# Altium footprint library IFBpcblib.PcbLib: 127 footprints (part 8 of 8)
Each footprint in its own frame and in the unit in brackets; x right, y up, seen from the top. Pads: shape width x height; smd on the part's side, far side on the other; paste and mask are expansions set on the pad; w line width, h text height; cw(c..) or ccw(c..) is an arc to the next point about the centre after c.
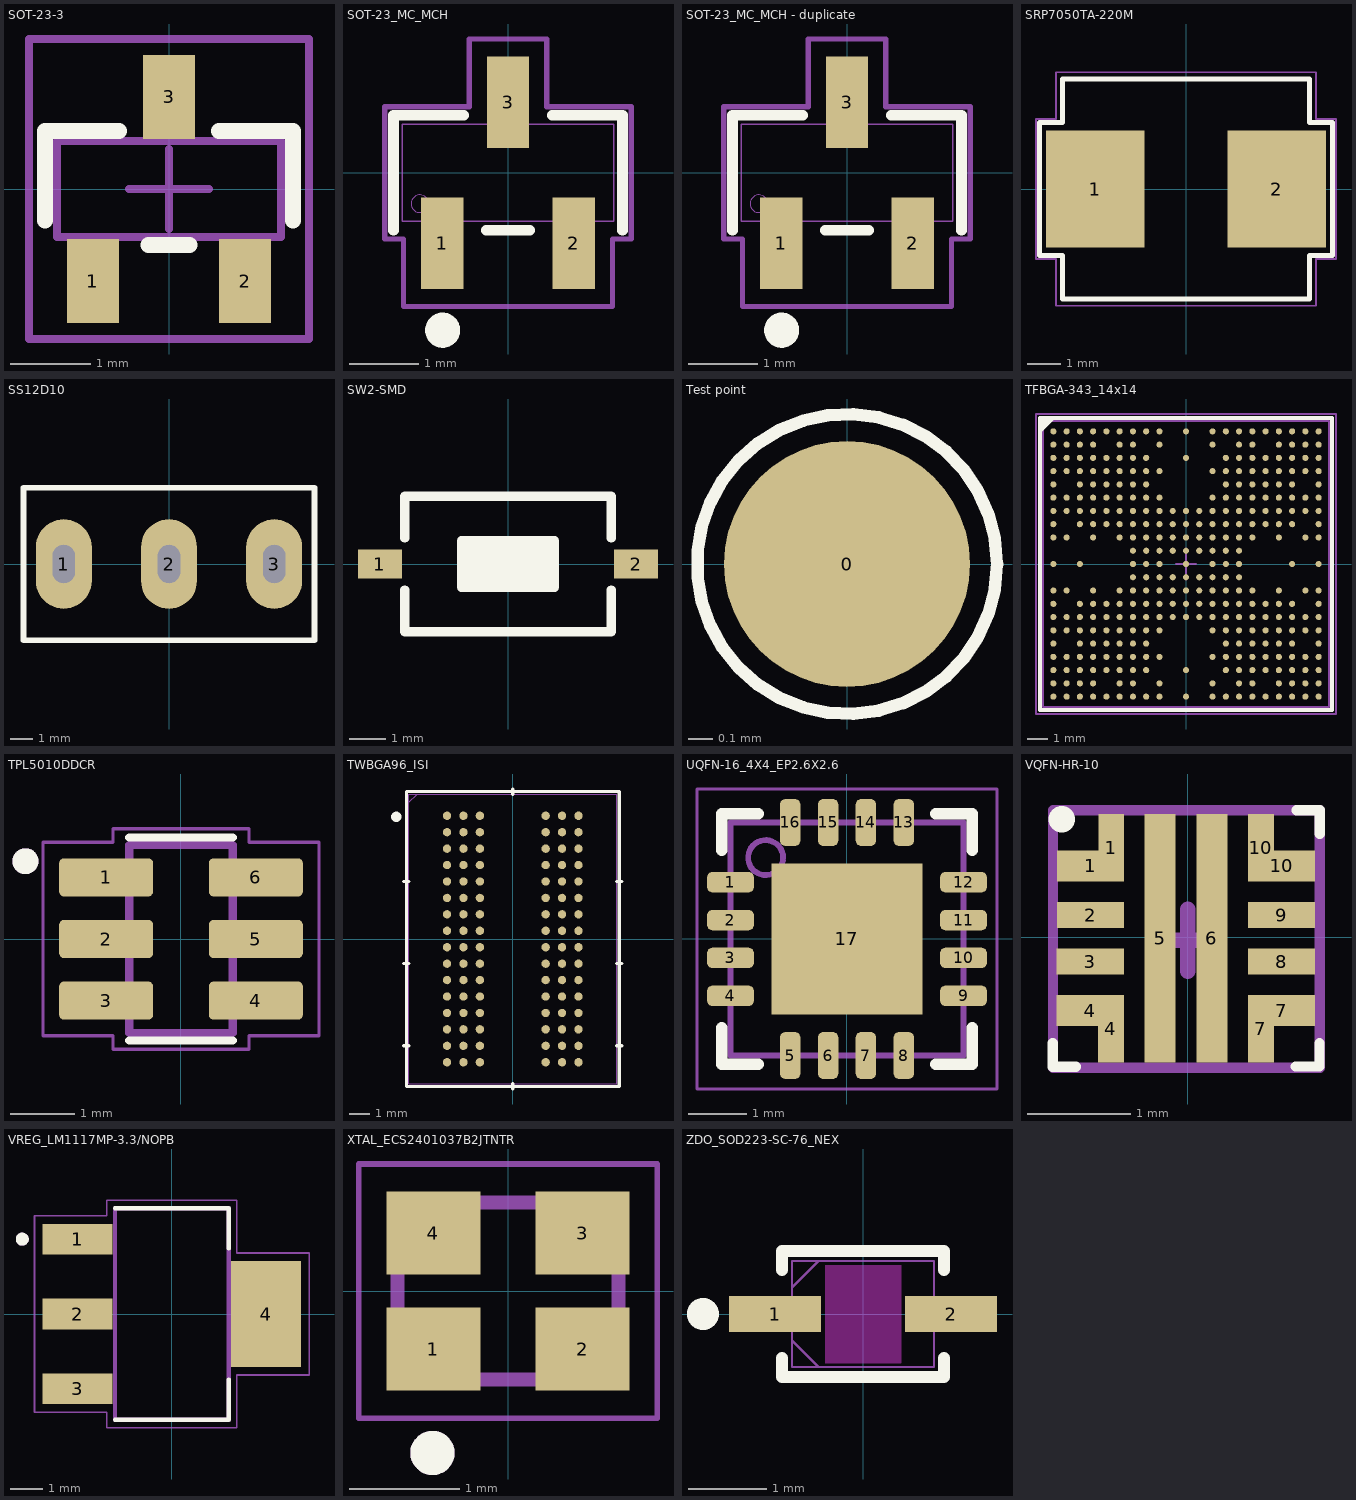
[diagram p7: the footprints below, top view; thin cyan lines are the x and y axes]

## SOT-23-3 [mm]
pads (3):
  rect 0.65x1.05 smd: 1(-0.95,-1.15) 2(0.95,-1.15) 3(0,1.15)
Top Overlay:
  lines w0.2: -1.552,-0.394 -1.552,0.722 -0.625,0.722 ; -0.254,-0.7 0.254,-0.7 ; 0.625,0.722 1.552,0.722 1.552,-0.394
Top Assembly:
  lines w0.1: -1.4,-0.6 -1.4,0.6 1.4,0.6 1.4,-0.6 -1.4,-0.6 ; -1.175,-1.15 -0.725,-1.15 -0.725,-0.6 -1.175,-0.6 -1.175,-1.15 ; -0.225,0.6 -0.225,1.15 0.225,1.15 0.225,0.6 -0.225,0.6 ; 0.725,-1.15 0.725,-0.6 1.175,-0.6 1.175,-1.15 0.725,-1.15
Top Courtyard:
  lines w0.1: -0.5,0 0.5,0 ; 0,-0.5 0,0.5 ; -1.752,-1.875 -1.752,1.875 1.752,1.875 1.752,-1.875 -1.752,-1.875
3D body "SOT-23.step": height 1.09, standoff -0.01, extent -1.5,-1.25 1.5,1.25

## SOT-23_MC_MCH [mil]
pads (3):
  rect 24x52 smd paste+0 mask+0: 1(-37.4,-39.97) 2(37.4,-39.97) 3(0,39.97)
Top Overlay:
  circle w10: c-37.13,-89.41 r5
  lines w6: -65.04,-32.56 -65.04,32.56 -25.1,32.56 ; -12.3,-32.56 12.3,-32.56 ; 25.1,32.56 65.04,32.56 65.04,-32.56
Mechanical 13:
  circle w0: c-50.04,-17.56 r5
  lines w1: -60.04,-27.56 60.04,-27.56 60.04,27.56 -60.04,27.56 -60.04,-27.56 ; -48.4,-51.97 -48.4,-27.56 -26.4,-27.56 -26.4,-51.97 -48.4,-51.97 ; -11,27.56 11,27.56 11,51.97 -11,51.97 -11,27.56 ; 26.4,-51.97 26.4,-27.56 48.4,-27.56 48.4,-51.97 26.4,-51.97
Mechanical 15:
  lines w3: -70.04,-37.56 -70.04,37.56 -22,37.56 -22,75.97 22,75.97 22,37.56 70.04,37.56 70.04,-37.56 59.4,-37.56 59.4,-75.97 -59.4,-75.97 -59.4,-37.56 -70.04,-37.56
3D body "SOT-23_MC_MCH.step": height 44.17, standoff 0, extent -60.04,-51.97 60.04,51.97

## SOT-23_MC_MCH - duplicate [mil]
pads (3):
  rect 24x52 smd paste+0 mask+0: 1(-37.4,-39.97) 2(37.4,-39.97) 3(0,39.97)
Top Overlay:
  circle w10: c-37.13,-89.41 r5
  lines w6: -65.04,-32.56 -65.04,32.56 -25.1,32.56 ; -12.3,-32.56 12.3,-32.56 ; 25.1,32.56 65.04,32.56 65.04,-32.56
Mechanical 13:
  circle w0: c-50.04,-17.56 r5
  lines w1: -60.04,-27.56 -60.04,27.56 60.04,27.56 60.04,-27.56 -60.04,-27.56 ; -48.4,-51.97 -26.4,-51.97 -26.4,-27.56 -48.4,-27.56 -48.4,-51.97 ; -11,27.56 -11,51.97 11,51.97 11,27.56 -11,27.56 ; 26.4,-51.97 48.4,-51.97 48.4,-27.56 26.4,-27.56 26.4,-51.97
Mechanical 15:
  lines w3: -70.04,-37.56 -59.4,-37.56 -59.4,-75.97 59.4,-75.97 59.4,-37.56 70.04,-37.56 70.04,37.56 22,37.56 22,75.97 -22,75.97 -22,37.56 -70.04,37.56 -70.04,-37.56
3D body "SOT-23_MC_MCH.step": height 44.17, standoff 0, extent -60.04,-51.97 60.04,51.97

## SRP7050TA-220M [mm]
pads (2):
  rect 2.95x3.5 smd: 1(-2.725,0) 2(2.725,0)
Top Overlay:
  lines w0.15: -4.4,-2 -3.7,-2 -3.7,-3.3 3.7,-3.3 3.7,-2 4.4,-2 4.4,2 3.7,2 3.7,3.3 -3.7,3.3 -3.7,2 -4.4,2 -4.4,-2
Top Courtyard:
  lines w0.05: -4.5,-2.1 -4.5,1.8 -4.5,2.1 -3.9,2.1 -3.9,3.5 3.9,3.5 3.9,2.1 4.5,2.1 4.5,-2.1 3.9,-2.1 3.9,-3.5 -3.9,-3.5 -3.9,-2.1 -4.5,-2.1
3D body "SRP7050TA.stp": height 4.6, standoff -0.35, extent -3.65,-3.3 3.65,3.3

## SS12D10 [mm]
pads (3):
  oval 2.5x4 hole 1 slot 1.7 at 90 deg: 1(-4.7,0) 2(0,0) 3(4.7,0)
Top Overlay:
  lines w0.254: -6.5,-3.4 6.5,-3.4 6.5,3.4 -6.5,3.4 -6.5,-3.4
3D body "Basprov1.1 v2.step": height 10.76, standoff -6.33, extent -6.5,-3.4 6.5,3.4

## SW2-SMD [mm]
pads (2):
  rect 1.2x0.8 smd: 1(-3.5,0) 2(3.5,0)
Top Overlay:
  rectangle: -1.27,-0.635 1.27,0.635
  lines w0.254: -2.819,-0.711 -2.819,-1.854 2.819,-1.854 2.819,-0.711 ; -2.819,0.711 -2.819,1.854 2.819,1.854 2.819,0.711 ; -1.27,-0.635 -1.27,0.635 1.27,0.635 1.27,-0.635 -1.27,-0.635
3D body "User Library-Button-SMD.step": height 2.5, standoff 0, extent -3.05,-1.85 3.05,1.85

## Test point [mm]
pads (1):
  round 1 smd paste-2539.97 mask+0: 0(0,0)
Top Overlay:
  circle w0.051: c0,0 r0.61

## TFBGA-343_14x14 [mm] "BGA, 343-Leads, Body 14,00mm x14,00mm, Pitch 0,65mm"
height 1.2
pads (343):
  round 0.3 smd mask+0.05: A1(-6.5,6.5) A2(-5.85,6.5) A3(-5.2,6.5) A4(-4.55,6.5) A5(-3.9,6.5) A6(-3.25,6.5) A7(-2.6,6.5) A8(-1.95,6.5) A9(-1.3,6.5) A11(0,6.5) A13(1.3,6.5) A14(1.95,6.5) A15(2.6,6.5) A16(3.25,6.5) A17(3.9,6.5) A18(4.55,6.5) A19(5.2,6.5) A20(5.85,6.5) A21(6.5,6.5) AA1(-6.5,-6.5) AA2(-5.85,-6.5) AA3(-5.2,-6.5) AA4(-4.55,-6.5) AA5(-3.9,-6.5) AA6(-3.25,-6.5) AA7(-2.6,-6.5) AA8(-1.95,-6.5) AA9(-1.3,-6.5) AA11(0,-6.5) AA13(1.3,-6.5) AA14(1.95,-6.5) AA15(2.6,-6.5) AA16(3.25,-6.5) AA17(3.9,-6.5) AA18(4.55,-6.5) AA19(5.2,-6.5) AA20(5.85,-6.5) AA21(6.5,-6.5) B1(-6.5,5.85) B2(-5.85,5.85) B3(-5.2,5.85) B4(-4.55,5.85) B6(-3.25,5.85) B7(-2.6,5.85) B9(-1.3,5.85) B13(1.3,5.85) B15(2.6,5.85) B16(3.25,5.85) B18(4.55,5.85) B19(5.2,5.85) B20(5.85,5.85) B21(6.5,5.85) C1(-6.5,5.2) C2(-5.85,5.2) C3(-5.2,5.2) C4(-4.55,5.2) C5(-3.9,5.2) C6(-3.25,5.2) C7(-2.6,5.2) C8(-1.95,5.2) C11(0,5.2) C14(1.95,5.2) C15(2.6,5.2) C16(3.25,5.2) C17(3.9,5.2) C18(4.55,5.2) C19(5.2,5.2) C20(5.85,5.2) C21(6.5,5.2) D1(-6.5,4.55) D2(-5.85,4.55) D3(-5.2,4.55) D4(-4.55,4.55) D5(-3.9,4.55) D6(-3.25,4.55) D7(-2.6,4.55) D8(-1.95,4.55) D9(-1.3,4.55) D13(1.3,4.55) D14(1.95,4.55) D15(2.6,4.55) D16(3.25,4.55) D17(3.9,4.55) D18(4.55,4.55) D19(5.2,4.55) D20(5.85,4.55) D21(6.5,4.55) E1(-6.5,3.9) E3(-5.2,3.9) E4(-4.55,3.9) E5(-3.9,3.9) E6(-3.25,3.9) E7(-2.6,3.9) E8(-1.95,3.9) E14(1.95,3.9) E15(2.6,3.9) E16(3.25,3.9) E17(3.9,3.9) E18(4.55,3.9) E19(5.2,3.9) E21(6.5,3.9) F1(-6.5,3.25) F2(-5.85,3.25) F3(-5.2,3.25) F4(-4.55,3.25) F5(-3.9,3.25) F6(-3.25,3.25) F7(-2.6,3.25) F8(-1.95,3.25) F9(-1.3,3.25) F13(1.3,3.25) F14(1.95,3.25) F15(2.6,3.25) F16(3.25,3.25) F17(3.9,3.25) F18(4.55,3.25) F19(5.2,3.25) F20(5.85,3.25) F21(6.5,3.25) G1(-6.5,2.6) G2(-5.85,2.6) G3(-5.2,2.6) G4(-4.55,2.6) G5(-3.9,2.6) G6(-3.25,2.6) G7(-2.6,2.6) G8(-1.95,2.6) G9(-1.3,2.6) G10(-0.65,2.6) G11(0,2.6) G12(0.65,2.6) G13(1.3,2.6) G14(1.95,2.6) G15(2.6,2.6) G16(3.25,2.6) G17(3.9,2.6) G18(4.55,2.6) G19(5.2,2.6) G20(5.85,2.6) G21(6.5,2.6) H1(-6.5,1.95) H3(-5.2,1.95) H4(-4.55,1.95) H5(-3.9,1.95) H6(-3.25,1.95) H7(-2.6,1.95) H8(-1.95,1.95) H9(-1.3,1.95) H10(-0.65,1.95) H11(0,1.95) H12(0.65,1.95) H13(1.3,1.95) H14(1.95,1.95) H15(2.6,1.95) H16(3.25,1.95) H17(3.9,1.95) H18(4.55,1.95) H19(5.2,1.95) H21(6.5,1.95) J1(-6.5,1.3) J2(-5.85,1.3) J4(-4.55,1.3) J6(-3.25,1.3) J7(-2.6,1.3) J8(-1.95,1.3) J9(-1.3,1.3) J10(-0.65,1.3) J11(0,1.3) J12(0.65,1.3) J13(1.3,1.3) J14(1.95,1.3) J15(2.6,1.3) J16(3.25,1.3) J18(4.55,1.3) J20(5.85,1.3) J21(6.5,1.3) K7(-2.6,0.65) K8(-1.95,0.65) K9(-1.3,0.65) K10(-0.65,0.65) K11(0,0.65) K12(0.65,0.65) K13(1.3,0.65) K14(1.95,0.65) K15(2.6,0.65) L1(-6.5,0) L3(-5.2,0) L7(-2.6,0) L8(-1.95,0) L9(-1.3,0) L11(0,0) L13(1.3,0) L14(1.95,0) L15(2.6,0) L19(5.2,0) L21(6.5,0) M7(-2.6,-0.65) M8(-1.95,-0.65) M9(-1.3,-0.65) M10(-0.65,-0.65) M11(0,-0.65) M12(0.65,-0.65) M13(1.3,-0.65) M14(1.95,-0.65) M15(2.6,-0.65) N1(-6.5,-1.3) N2(-5.85,-1.3) N4(-4.55,-1.3) N6(-3.25,-1.3) N7(-2.6,-1.3) N8(-1.95,-1.3) N9(-1.3,-1.3) N10(-0.65,-1.3) N11(0,-1.3) N12(0.65,-1.3) N13(1.3,-1.3) N14(1.95,-1.3) N15(2.6,-1.3) N16(3.25,-1.3) N18(4.55,-1.3) N20(5.85,-1.3) N21(6.5,-1.3) P1(-6.5,-1.95) P3(-5.2,-1.95) P4(-4.55,-1.95) P5(-3.9,-1.95) P6(-3.25,-1.95) P7(-2.6,-1.95) P8(-1.95,-1.95) P9(-1.3,-1.95) P10(-0.65,-1.95) P11(0,-1.95) P12(0.65,-1.95) P13(1.3,-1.95) P14(1.95,-1.95) P15(2.6,-1.95) P16(3.25,-1.95) P17(3.9,-1.95) P18(4.55,-1.95) P19(5.2,-1.95) P21(6.5,-1.95) R1(-6.5,-2.6) R2(-5.85,-2.6) R3(-5.2,-2.6) R4(-4.55,-2.6) R5(-3.9,-2.6) R6(-3.25,-2.6) R7(-2.6,-2.6) R8(-1.95,-2.6) R9(-1.3,-2.6) R10(-0.65,-2.6) R11(0,-2.6) R12(0.65,-2.6) R13(1.3,-2.6) R14(1.95,-2.6) R15(2.6,-2.6) R16(3.25,-2.6) R17(3.9,-2.6) R18(4.55,-2.6) R19(5.2,-2.6) R20(5.85,-2.6) R21(6.5,-2.6) T1(-6.5,-3.25) T2(-5.85,-3.25) T3(-5.2,-3.25) T4(-4.55,-3.25) T5(-3.9,-3.25) T6(-3.25,-3.25) T7(-2.6,-3.25) T8(-1.95,-3.25) T9(-1.3,-3.25) T13(1.3,-3.25) T14(1.95,-3.25) T15(2.6,-3.25) T16(3.25,-3.25) T17(3.9,-3.25) T18(4.55,-3.25) T19(5.2,-3.25) T20(5.85,-3.25) T21(6.5,-3.25) U1(-6.5,-3.9) U3(-5.2,-3.9) U4(-4.55,-3.9) U5(-3.9,-3.9) U6(-3.25,-3.9) U7(-2.6,-3.9) U8(-1.95,-3.9) U14(1.95,-3.9) U15(2.6,-3.9) U16(3.25,-3.9) U17(3.9,-3.9) U18(4.55,-3.9) U19(5.2,-3.9) U21(6.5,-3.9) V1(-6.5,-4.55) V2(-5.85,-4.55) V3(-5.2,-4.55) V4(-4.55,-4.55) V5(-3.9,-4.55) V6(-3.25,-4.55) V7(-2.6,-4.55) V8(-1.95,-4.55) V9(-1.3,-4.55) V13(1.3,-4.55) V14(1.95,-4.55) V15(2.6,-4.55) V16(3.25,-4.55) V17(3.9,-4.55) V18(4.55,-4.55) V19(5.2,-4.55) V20(5.85,-4.55) V21(6.5,-4.55) W1(-6.5,-5.2) W2(-5.85,-5.2) W3(-5.2,-5.2) W4(-4.55,-5.2) W5(-3.9,-5.2) W6(-3.25,-5.2) W7(-2.6,-5.2) W8(-1.95,-5.2) W11(0,-5.2) W14(1.95,-5.2) W15(2.6,-5.2) W16(3.25,-5.2) W17(3.9,-5.2) W18(4.55,-5.2) W19(5.2,-5.2) W20(5.85,-5.2) W21(6.5,-5.2) Y1(-6.5,-5.85) Y2(-5.85,-5.85) Y3(-5.2,-5.85) Y4(-4.55,-5.85) Y6(-3.25,-5.85) Y7(-2.6,-5.85) Y9(-1.3,-5.85) Y13(1.3,-5.85) Y15(2.6,-5.85) Y16(3.25,-5.85) Y18(4.55,-5.85) Y19(5.2,-5.85) Y20(5.85,-5.85) Y21(6.5,-5.85)
Top Overlay:
  region: -7.15,7.15 -6.4,7.15 -7.15,6.4
  lines w0.2: -7.15,-7.15 -7.15,7.15 7.15,7.15 7.15,-7.15 -7.15,-7.15
  text "." at -8.15,6.425 h1
Top Assembly:
  lines w0.1: -7,-7 -7,7 7,7 7,-7 -7,-7
  text ".Designator" at -0.975,-0.3 h1
  text "A1" at -6.8,5.825 h1
Top Courtyard:
  lines w0.1: -0.5,0 0.5,0 ; 0,-0.5 0,0.5 ; -7.35,-7.35 7.35,-7.35 7.35,7.35 -7.35,7.35 -7.35,-7.35
3D body: height 1.2, standoff 0.27, extent -7,-7 7,7
3D body: height 0.3, standoff -0.04, extent -6.666,6.338 -6.334,6.662
3D body: height 0.3, standoff -0.04, extent -6.662,5.688 -6.33,6.012
3D body: height 0.3, standoff -0.04, extent -6.012,5.688 -5.68,6.012
3D body: height 0.3, standoff -0.04, extent -5.362,5.688 -5.03,6.012
3D body: height 0.3, standoff -0.04, extent -4.712,5.688 -4.38,6.012
3D body: height 0.3, standoff -0.04, extent -3.412,5.688 -3.08,6.012
3D body: height 0.3, standoff -0.04, extent -2.762,5.688 -2.43,6.012
3D body: height 0.3, standoff -0.04, extent -1.462,5.688 -1.13,6.012
3D body: height 0.3, standoff -0.04, extent 1.138,5.688 1.47,6.012
3D body: height 0.3, standoff -0.04, extent 2.438,5.688 2.77,6.012
3D body: height 0.3, standoff -0.04, extent 3.088,5.688 3.42,6.012
3D body: height 0.3, standoff -0.04, extent 4.388,5.688 4.72,6.012
3D body: height 0.3, standoff -0.04, extent 5.038,5.688 5.37,6.012
3D body: height 0.3, standoff -0.04, extent 5.688,5.688 6.02,6.012
3D body: height 0.3, standoff -0.04, extent 6.338,5.688 6.67,6.012
3D body: height 0.3, standoff -0.04, extent -6.662,5.038 -6.33,5.362
3D body: height 0.3, standoff -0.04, extent -6.012,5.038 -5.68,5.362
3D body: height 0.3, standoff -0.04, extent -5.362,5.038 -5.03,5.362
3D body: height 0.3, standoff -0.04, extent -4.712,5.038 -4.38,5.362
3D body: height 0.3, standoff -0.04, extent -4.062,5.038 -3.73,5.362
3D body: height 0.3, standoff -0.04, extent -3.412,5.038 -3.08,5.362
3D body: height 0.3, standoff -0.04, extent -2.762,5.038 -2.43,5.362
3D body: height 0.3, standoff -0.04, extent -2.112,5.038 -1.78,5.362
3D body: height 0.3, standoff -0.04, extent -0.162,5.038 0.17,5.362
3D body: height 0.3, standoff -0.04, extent 1.788,5.038 2.12,5.362
3D body: height 0.3, standoff -0.04, extent 2.438,5.038 2.77,5.362
3D body: height 0.3, standoff -0.04, extent 3.088,5.038 3.42,5.362
3D body: height 0.3, standoff -0.04, extent 3.738,5.038 4.07,5.362
3D body: height 0.3, standoff -0.04, extent 4.388,5.038 4.72,5.362
3D body: height 0.3, standoff -0.04, extent 5.038,5.038 5.37,5.362
3D body: height 0.3, standoff -0.04, extent 5.688,5.038 6.02,5.362
3D body: height 0.3, standoff -0.04, extent 6.338,5.038 6.67,5.362
3D body: height 0.3, standoff -0.04, extent -6.662,4.388 -6.33,4.712
3D body: height 0.3, standoff -0.04, extent -6.012,4.388 -5.68,4.712
3D body: height 0.3, standoff -0.04, extent -5.362,4.388 -5.03,4.712
3D body: height 0.3, standoff -0.04, extent -4.712,4.388 -4.38,4.712
3D body: height 0.3, standoff -0.04, extent -4.062,4.388 -3.73,4.712
3D body: height 0.3, standoff -0.04, extent -3.412,4.388 -3.08,4.712
3D body: height 0.3, standoff -0.04, extent -2.762,4.388 -2.43,4.712
3D body: height 0.3, standoff -0.04, extent -2.112,4.388 -1.78,4.712
3D body: height 0.3, standoff -0.04, extent -1.462,4.388 -1.13,4.712
3D body: height 0.3, standoff -0.04, extent 1.138,4.388 1.47,4.712
3D body: height 0.3, standoff -0.04, extent 1.788,4.388 2.12,4.712
3D body: height 0.3, standoff -0.04, extent 2.438,4.388 2.77,4.712
3D body: height 0.3, standoff -0.04, extent 3.088,4.388 3.42,4.712
3D body: height 0.3, standoff -0.04, extent 3.738,4.388 4.07,4.712
3D body: height 0.3, standoff -0.04, extent 4.388,4.388 4.72,4.712
3D body: height 0.3, standoff -0.04, extent 5.038,4.388 5.37,4.712
3D body: height 0.3, standoff -0.04, extent 5.688,4.388 6.02,4.712
3D body: height 0.3, standoff -0.04, extent 6.338,4.388 6.67,4.712
3D body: height 0.3, standoff -0.04, extent -6.662,3.738 -6.33,4.062
3D body: height 0.3, standoff -0.04, extent -5.362,3.738 -5.03,4.062
3D body: height 0.3, standoff -0.04, extent -4.712,3.738 -4.38,4.062
3D body: height 0.3, standoff -0.04, extent -4.062,3.738 -3.73,4.062
3D body: height 0.3, standoff -0.04, extent -3.412,3.738 -3.08,4.062
3D body: height 0.3, standoff -0.04, extent -2.762,3.738 -2.43,4.062
3D body: height 0.3, standoff -0.04, extent -2.112,3.738 -1.78,4.062
3D body: height 0.3, standoff -0.04, extent 1.788,3.738 2.12,4.062
3D body: height 0.3, standoff -0.04, extent 2.438,3.738 2.77,4.062
3D body: height 0.3, standoff -0.04, extent 3.088,3.738 3.42,4.062
3D body: height 0.3, standoff -0.04, extent 3.738,3.738 4.07,4.062
3D body: height 0.3, standoff -0.04, extent 4.388,3.738 4.72,4.062
3D body: height 0.3, standoff -0.04, extent 5.038,3.738 5.37,4.062
3D body: height 0.3, standoff -0.04, extent 6.338,3.738 6.67,4.062
3D body: height 0.3, standoff -0.04, extent -6.662,3.088 -6.33,3.412
3D body: height 0.3, standoff -0.04, extent -6.012,3.088 -5.68,3.412
3D body: height 0.3, standoff -0.04, extent -5.362,3.088 -5.03,3.412
3D body: height 0.3, standoff -0.04, extent -4.712,3.088 -4.38,3.412
3D body: height 0.3, standoff -0.04, extent -4.062,3.088 -3.73,3.412
3D body: height 0.3, standoff -0.04, extent -3.412,3.088 -3.08,3.412
3D body: height 0.3, standoff -0.04, extent -2.762,3.088 -2.43,3.412
3D body: height 0.3, standoff -0.04, extent -2.112,3.088 -1.78,3.412
3D body: height 0.3, standoff -0.04, extent -1.462,3.088 -1.13,3.412
3D body: height 0.3, standoff -0.04, extent 1.138,3.088 1.47,3.412
3D body: height 0.3, standoff -0.04, extent 1.788,3.088 2.12,3.412
3D body: height 0.3, standoff -0.04, extent 2.438,3.088 2.77,3.412
3D body: height 0.3, standoff -0.04, extent 3.088,3.088 3.42,3.412
3D body: height 0.3, standoff -0.04, extent 3.738,3.088 4.07,3.412
3D body: height 0.3, standoff -0.04, extent 4.388,3.088 4.72,3.412
3D body: height 0.3, standoff -0.04, extent 5.038,3.088 5.37,3.412
3D body: height 0.3, standoff -0.04, extent 5.688,3.088 6.02,3.412
3D body: height 0.3, standoff -0.04, extent 6.338,3.088 6.67,3.412
3D body: height 0.3, standoff -0.04, extent -6.662,2.438 -6.33,2.762
3D body: height 0.3, standoff -0.04, extent -6.012,2.438 -5.68,2.762
3D body: height 0.3, standoff -0.04, extent -5.362,2.438 -5.03,2.762
3D body: height 0.3, standoff -0.04, extent -4.712,2.438 -4.38,2.762
3D body: height 0.3, standoff -0.04, extent -4.062,2.438 -3.73,2.762
3D body: height 0.3, standoff -0.04, extent -3.412,2.438 -3.08,2.762
3D body: height 0.3, standoff -0.04, extent -2.762,2.438 -2.43,2.762
3D body: height 0.3, standoff -0.04, extent -2.112,2.438 -1.78,2.762
3D body: height 0.3, standoff -0.04, extent -1.462,2.438 -1.13,2.762
3D body: height 0.3, standoff -0.04, extent -0.812,2.438 -0.48,2.762
3D body: height 0.3, standoff -0.04, extent -0.162,2.438 0.17,2.762
3D body: height 0.3, standoff -0.04, extent 0.488,2.438 0.82,2.762
3D body: height 0.3, standoff -0.04, extent 1.138,2.438 1.47,2.762
3D body: height 0.3, standoff -0.04, extent 1.788,2.438 2.12,2.762
3D body: height 0.3, standoff -0.04, extent 2.438,2.438 2.77,2.762
3D body: height 0.3, standoff -0.04, extent 3.088,2.438 3.42,2.762
3D body: height 0.3, standoff -0.04, extent 3.738,2.438 4.07,2.762
3D body: height 0.3, standoff -0.04, extent 4.388,2.438 4.72,2.762
3D body: height 0.3, standoff -0.04, extent 5.038,2.438 5.37,2.762
3D body: height 0.3, standoff -0.04, extent 5.688,2.438 6.02,2.762
3D body: height 0.3, standoff -0.04, extent 6.338,2.438 6.67,2.762
3D body: height 0.3, standoff -0.04, extent -6.012,6.338 -5.68,6.662
3D body: height 0.3, standoff -0.04, extent -5.362,6.338 -5.03,6.662
3D body: height 0.3, standoff -0.04, extent -4.712,6.338 -4.38,6.662
3D body: height 0.3, standoff -0.04, extent -4.062,6.338 -3.73,6.662
3D body: height 0.3, standoff -0.04, extent -3.412,6.338 -3.08,6.662
3D body: height 0.3, standoff -0.04, extent -2.762,6.338 -2.43,6.662
3D body: height 0.3, standoff -0.04, extent -2.112,6.338 -1.78,6.662
3D body: height 0.3, standoff -0.04, extent -1.462,6.338 -1.13,6.662
3D body: height 0.3, standoff -0.04, extent -0.162,6.338 0.17,6.662
3D body: height 0.3, standoff -0.04, extent 1.138,6.338 1.47,6.662
3D body: height 0.3, standoff -0.04, extent 1.788,6.338 2.12,6.662
3D body: height 0.3, standoff -0.04, extent 2.438,6.338 2.77,6.662
3D body: height 0.3, standoff -0.04, extent 3.088,6.338 3.42,6.662
3D body: height 0.3, standoff -0.04, extent 3.738,6.338 4.07,6.662
3D body: height 0.3, standoff -0.04, extent 4.388,6.338 4.72,6.662
3D body: height 0.3, standoff -0.04, extent 5.038,6.338 5.37,6.662
3D body: height 0.3, standoff -0.04, extent 5.688,6.338 6.02,6.662
3D body: height 0.3, standoff -0.04, extent 6.338,6.338 6.67,6.662
3D body: height 0.3, standoff -0.04, extent -6.662,1.788 -6.33,2.112
3D body: height 0.3, standoff -0.04, extent -5.362,1.788 -5.03,2.112
3D body: height 0.3, standoff -0.04, extent -4.712,1.788 -4.38,2.112
3D body: height 0.3, standoff -0.04, extent -4.062,1.788 -3.73,2.112
3D body: height 0.3, standoff -0.04, extent -3.412,1.788 -3.08,2.112
3D body: height 0.3, standoff -0.04, extent -2.762,1.788 -2.43,2.112
3D body: height 0.3, standoff -0.04, extent -2.112,1.788 -1.78,2.112
3D body: height 0.3, standoff -0.04, extent -1.462,1.788 -1.13,2.112
3D body: height 0.3, standoff -0.04, extent -0.812,1.788 -0.48,2.112
3D body: height 0.3, standoff -0.04, extent -0.162,1.788 0.17,2.112
3D body: height 0.3, standoff -0.04, extent 0.488,1.788 0.82,2.112
3D body: height 0.3, standoff -0.04, extent 1.138,1.788 1.47,2.112
3D body: height 0.3, standoff -0.04, extent 1.788,1.788 2.12,2.112
3D body: height 0.3, standoff -0.04, extent 2.438,1.788 2.77,2.112
3D body: height 0.3, standoff -0.04, extent 3.088,1.788 3.42,2.112
3D body: height 0.3, standoff -0.04, extent 3.738,1.788 4.07,2.112
3D body: height 0.3, standoff -0.04, extent 4.388,1.788 4.72,2.112
3D body: height 0.3, standoff -0.04, extent 5.038,1.788 5.37,2.112
3D body: height 0.3, standoff -0.04, extent 6.338,1.788 6.67,2.112
3D body: height 0.3, standoff -0.04, extent -6.662,1.138 -6.33,1.462
3D body: height 0.3, standoff -0.04, extent -6.012,1.138 -5.68,1.462
3D body: height 0.3, standoff -0.04, extent -4.712,1.138 -4.38,1.462
3D body: height 0.3, standoff -0.04, extent -3.412,1.138 -3.08,1.462
3D body: height 0.3, standoff -0.04, extent -2.762,1.138 -2.43,1.462
3D body: height 0.3, standoff -0.04, extent -2.112,1.138 -1.78,1.462
3D body: height 0.3, standoff -0.04, extent -1.462,1.138 -1.13,1.462
3D body: height 0.3, standoff -0.04, extent -0.812,1.138 -0.48,1.462
3D body: height 0.3, standoff -0.04, extent -0.162,1.138 0.17,1.462
3D body: height 0.3, standoff -0.04, extent 0.488,1.138 0.82,1.462
3D body: height 0.3, standoff -0.04, extent 1.138,1.138 1.47,1.462
3D body: height 0.3, standoff -0.04, extent 1.788,1.138 2.12,1.462
3D body: height 0.3, standoff -0.04, extent 2.438,1.138 2.77,1.462
3D body: height 0.3, standoff -0.04, extent 3.088,1.138 3.42,1.462
3D body: height 0.3, standoff -0.04, extent 4.388,1.138 4.72,1.462
3D body: height 0.3, standoff -0.04, extent 5.688,1.138 6.02,1.462
3D body: height 0.3, standoff -0.04, extent 6.338,1.138 6.67,1.462
3D body: height 0.3, standoff -0.04, extent -2.762,0.488 -2.43,0.812
3D body: height 0.3, standoff -0.04, extent -2.112,0.488 -1.78,0.812
3D body: height 0.3, standoff -0.04, extent -1.462,0.488 -1.13,0.812
3D body: height 0.3, standoff -0.04, extent -0.812,0.488 -0.48,0.812
3D body: height 0.3, standoff -0.04, extent -0.162,0.488 0.17,0.812
3D body: height 0.3, standoff -0.04, extent 0.488,0.488 0.82,0.812
3D body: height 0.3, standoff -0.04, extent 1.138,0.488 1.47,0.812
3D body: height 0.3, standoff -0.04, extent 1.788,0.488 2.12,0.812
3D body: height 0.3, standoff -0.04, extent 2.438,0.488 2.77,0.812
3D body: height 0.3, standoff -0.04, extent -6.662,-0.162 -6.33,0.162
3D body: height 0.3, standoff -0.04, extent -5.362,-0.162 -5.03,0.162
3D body: height 0.3, standoff -0.04, extent -2.762,-0.162 -2.43,0.162
3D body: height 0.3, standoff -0.04, extent -2.112,-0.162 -1.78,0.162
3D body: height 0.3, standoff -0.04, extent -1.462,-0.162 -1.13,0.162
3D body: height 0.3, standoff -0.04, extent -0.162,-0.162 0.17,0.162
3D body: height 0.3, standoff -0.04, extent 1.138,-0.162 1.47,0.162
3D body: height 0.3, standoff -0.04, extent 1.788,-0.162 2.12,0.162
3D body: height 0.3, standoff -0.04, extent 2.438,-0.162 2.77,0.162
3D body: height 0.3, standoff -0.04, extent 5.038,-0.162 5.37,0.162
3D body: height 0.3, standoff -0.04, extent 6.338,-0.162 6.67,0.162
3D body: height 0.3, standoff -0.04, extent 6.334,-6.662 6.666,-6.338
3D body: height 0.3, standoff -0.04, extent 6.33,-6.012 6.662,-5.688
3D body: height 0.3, standoff -0.04, extent 5.68,-6.012 6.012,-5.688
3D body: height 0.3, standoff -0.04, extent 5.03,-6.012 5.362,-5.688
3D body: height 0.3, standoff -0.04, extent 4.38,-6.012 4.712,-5.688
3D body: height 0.3, standoff -0.04, extent 3.08,-6.012 3.412,-5.688
3D body: height 0.3, standoff -0.04, extent 2.43,-6.012 2.762,-5.688
3D body: height 0.3, standoff -0.04, extent 1.13,-6.012 1.462,-5.688
3D body: height 0.3, standoff -0.04, extent -1.47,-6.012 -1.138,-5.688
3D body: height 0.3, standoff -0.04, extent -2.77,-6.012 -2.438,-5.688
3D body: height 0.3, standoff -0.04, extent -3.42,-6.012 -3.088,-5.688
3D body: height 0.3, standoff -0.04, extent -4.72,-6.012 -4.388,-5.688
3D body: height 0.3, standoff -0.04, extent -5.37,-6.012 -5.038,-5.688
3D body: height 0.3, standoff -0.04, extent -6.02,-6.012 -5.688,-5.688
3D body: height 0.3, standoff -0.04, extent -6.67,-6.012 -6.338,-5.688
3D body: height 0.3, standoff -0.04, extent 6.33,-5.362 6.662,-5.038
3D body: height 0.3, standoff -0.04, extent 5.68,-5.362 6.012,-5.038
3D body: height 0.3, standoff -0.04, extent 5.03,-5.362 5.362,-5.038
3D body: height 0.3, standoff -0.04, extent 4.38,-5.362 4.712,-5.038
3D body: height 0.3, standoff -0.04, extent 3.73,-5.362 4.062,-5.038
3D body: height 0.3, standoff -0.04, extent 3.08,-5.362 3.412,-5.038
3D body: height 0.3, standoff -0.04, extent 2.43,-5.362 2.762,-5.038
3D body: height 0.3, standoff -0.04, extent 1.78,-5.362 2.112,-5.038
3D body: height 0.3, standoff -0.04, extent -0.17,-5.362 0.162,-5.038
3D body: height 0.3, standoff -0.04, extent -2.12,-5.362 -1.788,-5.038
3D body: height 0.3, standoff -0.04, extent -2.77,-5.362 -2.438,-5.038
3D body: height 0.3, standoff -0.04, extent -3.42,-5.362 -3.088,-5.038
3D body: height 0.3, standoff -0.04, extent -4.07,-5.362 -3.738,-5.038
3D body: height 0.3, standoff -0.04, extent -4.72,-5.362 -4.388,-5.038
3D body: height 0.3, standoff -0.04, extent -5.37,-5.362 -5.038,-5.038
3D body: height 0.3, standoff -0.04, extent -6.02,-5.362 -5.688,-5.038
3D body: height 0.3, standoff -0.04, extent -6.67,-5.362 -6.338,-5.038
3D body: height 0.3, standoff -0.04, extent 6.33,-4.712 6.662,-4.388
3D body: height 0.3, standoff -0.04, extent 5.68,-4.712 6.012,-4.388
3D body: height 0.3, standoff -0.04, extent 5.03,-4.712 5.362,-4.388
3D body: height 0.3, standoff -0.04, extent 4.38,-4.712 4.712,-4.388
3D body: height 0.3, standoff -0.04, extent 3.73,-4.712 4.062,-4.388
3D body: height 0.3, standoff -0.04, extent 3.08,-4.712 3.412,-4.388
3D body: height 0.3, standoff -0.04, extent 2.43,-4.712 2.762,-4.388
3D body: height 0.3, standoff -0.04, extent 1.78,-4.712 2.112,-4.388
3D body: height 0.3, standoff -0.04, extent 1.13,-4.712 1.462,-4.388
3D body: height 0.3, standoff -0.04, extent -1.47,-4.712 -1.138,-4.388
3D body: height 0.3, standoff -0.04, extent -2.12,-4.712 -1.788,-4.388
3D body: height 0.3, standoff -0.04, extent -2.77,-4.712 -2.438,-4.388
3D body: height 0.3, standoff -0.04, extent -3.42,-4.712 -3.088,-4.388
3D body: height 0.3, standoff -0.04, extent -4.07,-4.712 -3.738,-4.388
3D body: height 0.3, standoff -0.04, extent -4.72,-4.712 -4.388,-4.388
3D body: height 0.3, standoff -0.04, extent -5.37,-4.712 -5.038,-4.388
3D body: height 0.3, standoff -0.04, extent -6.02,-4.712 -5.688,-4.388
3D body: height 0.3, standoff -0.04, extent -6.67,-4.712 -6.338,-4.388
3D body: height 0.3, standoff -0.04, extent 6.33,-4.062 6.662,-3.738
3D body: height 0.3, standoff -0.04, extent 5.03,-4.062 5.362,-3.738
3D body: height 0.3, standoff -0.04, extent 4.38,-4.062 4.712,-3.738
3D body: height 0.3, standoff -0.04, extent 3.73,-4.062 4.062,-3.738
3D body: height 0.3, standoff -0.04, extent 3.08,-4.062 3.412,-3.738
3D body: height 0.3, standoff -0.04, extent 2.43,-4.062 2.762,-3.738
3D body: height 0.3, standoff -0.04, extent 1.78,-4.062 2.112,-3.738
3D body: height 0.3, standoff -0.04, extent -2.12,-4.062 -1.788,-3.738
3D body: height 0.3, standoff -0.04, extent -2.77,-4.062 -2.438,-3.738
3D body: height 0.3, standoff -0.04, extent -3.42,-4.062 -3.088,-3.738
3D body: height 0.3, standoff -0.04, extent -4.07,-4.062 -3.738,-3.738
3D body: height 0.3, standoff -0.04, extent -4.72,-4.062 -4.388,-3.738
3D body: height 0.3, standoff -0.04, extent -5.37,-4.062 -5.038,-3.738
3D body: height 0.3, standoff -0.04, extent -6.67,-4.062 -6.338,-3.738
3D body: height 0.3, standoff -0.04, extent 6.33,-3.412 6.662,-3.088
3D body: height 0.3, standoff -0.04, extent 5.68,-3.412 6.012,-3.088
3D body: height 0.3, standoff -0.04, extent 5.03,-3.412 5.362,-3.088
3D body: height 0.3, standoff -0.04, extent 4.38,-3.412 4.712,-3.088
3D body: height 0.3, standoff -0.04, extent 3.73,-3.412 4.062,-3.088
3D body: height 0.3, standoff -0.04, extent 3.08,-3.412 3.412,-3.088
3D body: height 0.3, standoff -0.04, extent 2.43,-3.412 2.762,-3.088
3D body: height 0.3, standoff -0.04, extent 1.78,-3.412 2.112,-3.088
3D body: height 0.3, standoff -0.04, extent 1.13,-3.412 1.462,-3.088
3D body: height 0.3, standoff -0.04, extent -1.47,-3.412 -1.138,-3.088
3D body: height 0.3, standoff -0.04, extent -2.12,-3.412 -1.788,-3.088
3D body: height 0.3, standoff -0.04, extent -2.77,-3.412 -2.438,-3.088
3D body: height 0.3, standoff -0.04, extent -3.42,-3.412 -3.088,-3.088
3D body: height 0.3, standoff -0.04, extent -4.07,-3.412 -3.738,-3.088
3D body: height 0.3, standoff -0.04, extent -4.72,-3.412 -4.388,-3.088
3D body: height 0.3, standoff -0.04, extent -5.37,-3.412 -5.038,-3.088
3D body: height 0.3, standoff -0.04, extent -6.02,-3.412 -5.688,-3.088
3D body: height 0.3, standoff -0.04, extent -6.67,-3.412 -6.338,-3.088
3D body: height 0.3, standoff -0.04, extent 6.33,-2.762 6.662,-2.438
3D body: height 0.3, standoff -0.04, extent 5.68,-2.762 6.012,-2.438
3D body: height 0.3, standoff -0.04, extent 5.03,-2.762 5.362,-2.438
3D body: height 0.3, standoff -0.04, extent 4.38,-2.762 4.712,-2.438
3D body: height 0.3, standoff -0.04, extent 3.73,-2.762 4.062,-2.438
3D body: height 0.3, standoff -0.04, extent 3.08,-2.762 3.412,-2.438
3D body: height 0.3, standoff -0.04, extent 2.43,-2.762 2.762,-2.438
3D body: height 0.3, standoff -0.04, extent 1.78,-2.762 2.112,-2.438
3D body: height 0.3, standoff -0.04, extent 1.13,-2.762 1.462,-2.438
3D body: height 0.3, standoff -0.04, extent 0.48,-2.762 0.812,-2.438
3D body: height 0.3, standoff -0.04, extent -0.17,-2.762 0.162,-2.438
3D body: height 0.3, standoff -0.04, extent -0.82,-2.762 -0.488,-2.438
3D body: height 0.3, standoff -0.04, extent -1.47,-2.762 -1.138,-2.438
3D body: height 0.3, standoff -0.04, extent -2.12,-2.762 -1.788,-2.438
3D body: height 0.3, standoff -0.04, extent -2.77,-2.762 -2.438,-2.438
3D body: height 0.3, standoff -0.04, extent -3.42,-2.762 -3.088,-2.438
3D body: height 0.3, standoff -0.04, extent -4.07,-2.762 -3.738,-2.438
3D body: height 0.3, standoff -0.04, extent -4.72,-2.762 -4.388,-2.438
3D body: height 0.3, standoff -0.04, extent -5.37,-2.762 -5.038,-2.438
3D body: height 0.3, standoff -0.04, extent -6.02,-2.762 -5.688,-2.438
3D body: height 0.3, standoff -0.04, extent -6.67,-2.762 -6.338,-2.438
3D body: height 0.3, standoff -0.04, extent 5.68,-6.662 6.012,-6.338
3D body: height 0.3, standoff -0.04, extent 5.03,-6.662 5.362,-6.338
3D body: height 0.3, standoff -0.04, extent 4.38,-6.662 4.712,-6.338
3D body: height 0.3, standoff -0.04, extent 3.73,-6.662 4.062,-6.338
3D body: height 0.3, standoff -0.04, extent 3.08,-6.662 3.412,-6.338
3D body: height 0.3, standoff -0.04, extent 2.43,-6.662 2.762,-6.338
3D body: height 0.3, standoff -0.04, extent 1.78,-6.662 2.112,-6.338
3D body: height 0.3, standoff -0.04, extent 1.13,-6.662 1.462,-6.338
3D body: height 0.3, standoff -0.04, extent -0.17,-6.662 0.162,-6.338
3D body: height 0.3, standoff -0.04, extent -1.47,-6.662 -1.138,-6.338
3D body: height 0.3, standoff -0.04, extent -2.12,-6.662 -1.788,-6.338
3D body: height 0.3, standoff -0.04, extent -2.77,-6.662 -2.438,-6.338
3D body: height 0.3, standoff -0.04, extent -3.42,-6.662 -3.088,-6.338
3D body: height 0.3, standoff -0.04, extent -4.07,-6.662 -3.738,-6.338
3D body: height 0.3, standoff -0.04, extent -4.72,-6.662 -4.388,-6.338
3D body: height 0.3, standoff -0.04, extent -5.37,-6.662 -5.038,-6.338
3D body: height 0.3, standoff -0.04, extent -6.02,-6.662 -5.688,-6.338
3D body: height 0.3, standoff -0.04, extent -6.67,-6.662 -6.338,-6.338
3D body: height 0.3, standoff -0.04, extent 6.33,-2.112 6.662,-1.788
3D body: height 0.3, standoff -0.04, extent 5.03,-2.112 5.362,-1.788
3D body: height 0.3, standoff -0.04, extent 4.38,-2.112 4.712,-1.788
3D body: height 0.3, standoff -0.04, extent 3.73,-2.112 4.062,-1.788
3D body: height 0.3, standoff -0.04, extent 3.08,-2.112 3.412,-1.788
3D body: height 0.3, standoff -0.04, extent 2.43,-2.112 2.762,-1.788
3D body: height 0.3, standoff -0.04, extent 1.78,-2.112 2.112,-1.788
3D body: height 0.3, standoff -0.04, extent 1.13,-2.112 1.462,-1.788
3D body: height 0.3, standoff -0.04, extent 0.48,-2.112 0.812,-1.788
3D body: height 0.3, standoff -0.04, extent -0.17,-2.112 0.162,-1.788
3D body: height 0.3, standoff -0.04, extent -0.82,-2.112 -0.488,-1.788
3D body: height 0.3, standoff -0.04, extent -1.47,-2.112 -1.138,-1.788
3D body: height 0.3, standoff -0.04, extent -2.12,-2.112 -1.788,-1.788
3D body: height 0.3, standoff -0.04, extent -2.77,-2.112 -2.438,-1.788
3D body: height 0.3, standoff -0.04, extent -3.42,-2.112 -3.088,-1.788
3D body: height 0.3, standoff -0.04, extent -4.07,-2.112 -3.738,-1.788
3D body: height 0.3, standoff -0.04, extent -4.72,-2.112 -4.388,-1.788
3D body: height 0.3, standoff -0.04, extent -5.37,-2.112 -5.038,-1.788
3D body: height 0.3, standoff -0.04, extent -6.67,-2.112 -6.338,-1.788
3D body: height 0.3, standoff -0.04, extent 6.33,-1.462 6.662,-1.138
3D body: height 0.3, standoff -0.04, extent 5.68,-1.462 6.012,-1.138
3D body: height 0.3, standoff -0.04, extent 4.38,-1.462 4.712,-1.138
3D body: height 0.3, standoff -0.04, extent 3.08,-1.462 3.412,-1.138
3D body: height 0.3, standoff -0.04, extent 2.43,-1.462 2.762,-1.138
3D body: height 0.3, standoff -0.04, extent 1.78,-1.462 2.112,-1.138
3D body: height 0.3, standoff -0.04, extent 1.13,-1.462 1.462,-1.138
3D body: height 0.3, standoff -0.04, extent 0.48,-1.462 0.812,-1.138
3D body: height 0.3, standoff -0.04, extent -0.17,-1.462 0.162,-1.138
3D body: height 0.3, standoff -0.04, extent -0.82,-1.462 -0.488,-1.138
3D body: height 0.3, standoff -0.04, extent -1.47,-1.462 -1.138,-1.138
3D body: height 0.3, standoff -0.04, extent -2.12,-1.462 -1.788,-1.138
3D body: height 0.3, standoff -0.04, extent -2.77,-1.462 -2.438,-1.138
3D body: height 0.3, standoff -0.04, extent -3.42,-1.462 -3.088,-1.138
3D body: height 0.3, standoff -0.04, extent -4.72,-1.462 -4.388,-1.138
3D body: height 0.3, standoff -0.04, extent -6.02,-1.462 -5.688,-1.138
3D body: height 0.3, standoff -0.04, extent -6.67,-1.462 -6.338,-1.138
3D body: height 0.3, standoff -0.04, extent 2.43,-0.812 2.762,-0.488
3D body: height 0.3, standoff -0.04, extent 1.78,-0.812 2.112,-0.488
3D body: height 0.3, standoff -0.04, extent 1.13,-0.812 1.462,-0.488
3D body: height 0.3, standoff -0.04, extent 0.48,-0.812 0.812,-0.488
3D body: height 0.3, standoff -0.04, extent -0.17,-0.812 0.162,-0.488
3D body: height 0.3, standoff -0.04, extent -0.82,-0.812 -0.488,-0.488
3D body: height 0.3, standoff -0.04, extent -1.47,-0.812 -1.138,-0.488
3D body: height 0.3, standoff -0.04, extent -2.12,-0.812 -1.788,-0.488
3D body: height 0.3, standoff -0.04, extent -2.77,-0.812 -2.438,-0.488
3D body: height 1.22, standoff 0.72, extent -6.475,5.876 -5.877,6.474

## TPL5010DDCR [mm]
pads (6):
  rrect25% 1.45x0.59 smd: 1(-1.155,0.95) 2(-1.155,0) 3(-1.155,-0.95) 4(1.155,-0.95) 5(1.155,0) 6(1.155,0.95)
Top Overlay:
  circle w0.2: c-2.4,1.2 r0.1
  lines w0.127: -0.8,-1.565 0.8,-1.565 ; -0.8,1.565 0.8,1.565
Mechanical 13:
  circle w0.2: c-2.4,1.2 r0.1
  lines w0.127: -0.8,-1.45 0.8,-1.45 0.8,1.45 -0.8,1.45 -0.8,-1.45
Mechanical 15:
  lines w0.05: -2.13,-1.495 -1.05,-1.495 -1.05,-1.7 1.05,-1.7 1.05,-1.495 2.13,-1.495 2.13,1.495 1.05,1.495 1.05,1.7 -1.05,1.7 -1.05,1.495 -2.13,1.495 -2.13,-1.495
3D body "step_temp.STEP": height 1.1, standoff 0, extent -1.4,-1.45 1.4,1.45

## TWBGA96_ISI [mm]
pads (96):
  round 0.406 smd paste+0 mask+0: A1(-3.2,6) A2(-2.4,6) A3(-1.6,6) A7(1.6,6) A8(2.4,6) A9(3.2,6) B1(-3.2,5.2) B2(-2.4,5.2) B3(-1.6,5.2) B7(1.6,5.2) B8(2.4,5.2) B9(3.2,5.2) C1(-3.2,4.4) C2(-2.4,4.4) C3(-1.6,4.4) C7(1.6,4.4) C8(2.4,4.4) C9(3.2,4.4) D1(-3.2,3.6) D2(-2.4,3.6) D3(-1.6,3.6) D7(1.6,3.6) D8(2.4,3.6) D9(3.2,3.6) E1(-3.2,2.8) E2(-2.4,2.8) E3(-1.6,2.8) E7(1.6,2.8) E8(2.4,2.8) E9(3.2,2.8) F1(-3.2,2) F2(-2.4,2) F3(-1.6,2) F7(1.6,2) F8(2.4,2) F9(3.2,2) G1(-3.2,1.2) G2(-2.4,1.2) G3(-1.6,1.2) G7(1.6,1.2) G8(2.4,1.2) G9(3.2,1.2) H1(-3.2,0.4) H2(-2.4,0.4) H3(-1.6,0.4) H7(1.6,0.4) H8(2.4,0.4) H9(3.2,0.4) J1(-3.2,-0.4) J2(-2.4,-0.4) J3(-1.6,-0.4) J7(1.6,-0.4) J8(2.4,-0.4) J9(3.2,-0.4) K1(-3.2,-1.2) K2(-2.4,-1.2) K3(-1.6,-1.2) K7(1.6,-1.2) K8(2.4,-1.2) K9(3.2,-1.2) L1(-3.2,-2) L2(-2.4,-2) L3(-1.6,-2) L7(1.6,-2) L8(2.4,-2) L9(3.2,-2) M1(-3.2,-2.8) M2(-2.4,-2.8) M3(-1.6,-2.8) M7(1.6,-2.8) M8(2.4,-2.8) M9(3.2,-2.8) N1(-3.2,-3.6) N2(-2.4,-3.6) N3(-1.6,-3.6) N7(1.6,-3.6) N8(2.4,-3.6) N9(3.2,-3.6) P1(-3.2,-4.4) P2(-2.4,-4.4) P3(-1.6,-4.4) P7(1.6,-4.4) P8(2.4,-4.4) P9(3.2,-4.4) R1(-3.2,-5.2) R2(-2.4,-5.2) R3(-1.6,-5.2) R7(1.6,-5.2) R8(2.4,-5.2) R9(3.2,-5.2) T1(-3.2,-6) T2(-2.4,-6) T3(-1.6,-6) T7(1.6,-6) T8(2.4,-6) T9(3.2,-6)
Top Overlay:
  circle w0.3: c-5.672,5.949 r0.1
  lines w0.152: -5.309,-5.2 -5.055,-5.2 ; -5.309,-1.2 -5.055,-1.2 ; -5.309,2.8 -5.055,2.8 ; 0,-7.302 0,-7.048 ; 0,7.048 0,7.302 ; 5.055,-5.2 5.309,-5.2 ; 5.055,-1.2 5.309,-1.2 ; 5.055,2.8 5.309,2.8 ; -5.182,-7.175 -5.182,7.175 5.182,7.175 5.182,-7.175 -5.182,-7.175
Mechanical 13:
  lines w0.025: -5.055,6.649 -4.655,7.048 ; -5.055,-7.048 -5.055,7.048 5.055,7.048 5.055,-7.048 -5.055,-7.048
3D body "TWBGA96_ISI.step": height 1.2, standoff 0, extent -5.055,-7.048 5.055,7.048

## UQFN-16_4X4_EP2.6X2.6 [mm]
height 0.5
pads (17):
  rrect50% 0.8x0.35 smd paste+0 mask+0.075: 1(-2,0.975) 2(-2,0.325) 3(-2,-0.325) 4(-2,-0.975) 9(2,-0.975) 10(2,-0.325) 11(2,0.325) 12(2,0.975)
  rrect50% 0.35x0.8 smd paste+0 mask+0.057: 5(-0.975,-2) 6(-0.325,-2) 7(0.325,-2) 8(0.975,-2) 13(0.975,2) 14(0.325,2) 15(-0.325,2) 16(-0.975,2)
  rect 2.6x2.6 smd paste-0.25 mask+0.075: 17(0,0)
Top Overlay:
  lines w0.2: -2.15,-1.525 -2.15,-2.15 -1.525,-2.15 ; -2.15,1.525 -2.15,2.15 -1.525,2.15 ; 1.525,-2.15 2.15,-2.15 2.15,-1.525 ; 1.525,2.15 2.15,2.15 2.15,1.525
  text "." at -3,1.75 h1
Top Assembly:
  circle w0.1: c-1.397,1.397 r0.3
  lines w0.1: -2,-2 2,-2 2,2 -2,2 -2,-2
Top Courtyard:
  lines w0.05: -2.575,-2.575 2.575,-2.575 2.575,2.575 -2.575,2.575 -2.575,-2.575
  lines w0.1: -0.5,0 0.5,0 ; 0,-0.5 0,0.5
3D body "QFN127P600-8N.step": height 0.5, standoff 0, extent -2.001,-2.001 2.001,2.001

## VQFN-HR-10 [mm]
pads (14):
  rect 0.65x0.3 smd: 1(-0.938,0.692) 4(-0.941,-0.708) 7(0.909,-0.708) 10(0.909,0.692)
  rect 0.25x0.65 smd: 1(-0.738,0.867) 4(-0.741,-0.883) 7(0.709,-0.883) 10(0.709,0.867)
  rect 0.65x0.25 smd: 2(-0.938,0.216) 3(-0.941,-0.233) 8(0.909,-0.233) 9(0.909,0.216)
  rect 0.3x2.4 smd: 5(-0.265,-0.008) 6(0.235,-0.007)
Top Overlay:
  lines w0.1: -1.304,-1.022 -1.304,-1.25 -1.078,-1.25 ; 1.047,-1.247 1.275,-1.247 1.275,-1.021 ; 1.053,1.228 1.279,1.228 1.279,1
  lines w0.254: -1.216,1.143 -1.213,1.143
Top 3D Body:
  lines w0.1: -1.301,-1.261 1.278,-1.261 1.278,1.231 -1.301,1.231 -1.301,-1.261
  lines w0.15: -0.298,-0.027 0.302,-0.027 ; 0.002,-0.327 0.002,0.273
3D body "TPS259470ARPWR.step": height 1, standoff 0, extent -1.028,-1.005 0.972,0.995

## VREG_LM1117MP-3.3/NOPB [mm]
height 1.8
pads (4):
  rect 2.15x0.95 smd: 1(-2.9,2.3) 2(-2.9,0) 3(-2.9,-2.3)
  rect 2.15x3.25 smd: 4(2.9,0)
Top Overlay:
  circle w0.2: c-4.6,2.3 r0.1
  lines w0.127: -1.75,-3.25 1.75,-3.25 1.75,-2.01 ; -1.75,3.25 1.75,3.25 1.75,2.01
Mechanical 13:
  circle w0.2: c-4.6,2.3 r0.1
  lines w0.127: -1.75,-3.25 1.75,-3.25 1.75,3.25 -1.75,3.25 -1.75,-3.25
Mechanical 15:
  lines w0.05: -4.225,-3.025 -2,-3.025 -2,-3.5 2,-3.5 2,-1.875 4.225,-1.875 4.225,1.875 2,1.875 2,3.5 -2,3.5 -2,3.025 -4.225,3.025 -4.225,-3.025
3D body "step_temp.STEP": height 1.8, standoff 0, extent -3.499,-3.25 3.499,3.25

## XTAL_ECS2401037B2JTNTR [mm]
pads (4):
  rect 0.85x0.75 smd paste+0 mask+0.102: 1(-0.675,-0.525) 2(0.675,-0.525) 3(0.675,0.525) 4(-0.675,0.525)
Top Overlay:
  circle w0.2: c-0.684,-1.466 r0.1
Mechanical 13:
  circle w0.2: c-0.684,-1.466 r0.1
  lines w0.127: -1,-0.8 -1,0.8 1,0.8 1,-0.8 -1,-0.8
Mechanical 15:
  lines w0.05: -1.35,-1.15 -1.35,1.15 1.35,1.15 1.35,-1.15 -1.35,-1.15
3D body "step_temp.STEP": height 0.5, standoff 0, extent -1,-0.8 1,0.8

## ZDO_SOD223-SC-76_NEX [mil]
pads (2):
  rect 46x18 smd paste+0 mask+0: 1(-44,0) 2(44,0)
Top Overlay:
  circle w10: c-80,0 r3
  lines w6: -40.5,-22.1 -40.5,-31.5 40.5,-31.5 40.5,-22.1 ; -40.5,22.1 -40.5,31.5 40.5,31.5 40.5,22.1
Keep-Out Layer:
  region: -19,-24.5 -19,24.5 19,24.5 19,-24.5
Mechanical 13:
  lines w1: -35.5,-13.25 -22.25,-26.5 ; -35.5,13.25 -22.25,26.5 ; -53,-8 -35.5,-8 -35.5,8 -53,8 -53,-8 ; -35.5,-26.5 -35.5,26.5 35.5,26.5 35.5,-26.5 -35.5,-26.5 ; 35.5,-8 53,-8 53,8 35.5,8 35.5,-8
3D body "ZDO_SOD223-SC-76_NEX.step": height 43.11, standoff 0, extent -52.99,-26.5 52.99,26.5